# Altium schematic symbol library Schlib_KM_PBL4.SchLib: 3 symbols
Pins are listed as number, name and electrical type; pins without a type are passive.

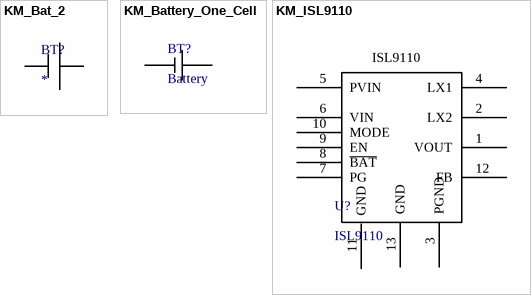
[diagram p0: symbols KM_Bat_2 to KM_ISL9110]

## KM_Bat_2
designator BT?
footprint KM_Battery
pins: 3, 4

## KM_Battery_One_Cell
designator BT?, comment Battery
footprint HDR1X2 (Connector; Header; 2 Position)
pins: 1, 2

## KM_ISL9110
designator U?, comment ISL9110
L12.3x3C
footprint KM_L12.3x3C (Footprint not found)
pins: 1 VOUT, 2 LX2, 3 PGND, 4 LX1, 5 PVIN, 6 VIN, 7 PG, 8 ~{BAT}, 9 EN, 10 MODE, 11 GND, 12 FB, 13 GND